# EAGLE library part DIP03YL (library LARS_409_SWITCH)
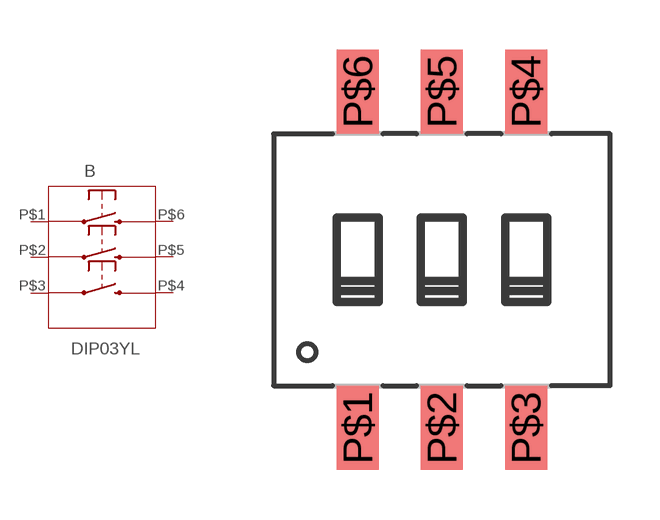
[diagram p0: symbol with the pads of DIP03YL; footprint DIP03YL]

Designator prefix B

## DIP03YL  [DIP03YL]
P$1  31  pas
P$2  2  pas
P$3  3  pas
P$4  34  pas
P$5  5  pas
P$6  6  pas

## Footprint DIP03YL (pad centres in mm)
DIL/CODE SWITCH
smd 1.27 x 2.54: P$1 -2.54,-5.08; P$2 0,-5.08; P$3 2.54,-5.08; P$4 2.54,5.08; P$5 0,5.08; P$6 -2.54,5.08